# Altium integrated library Diodes - TVS.IntLib: 5379 symbols (part 116 of 122)
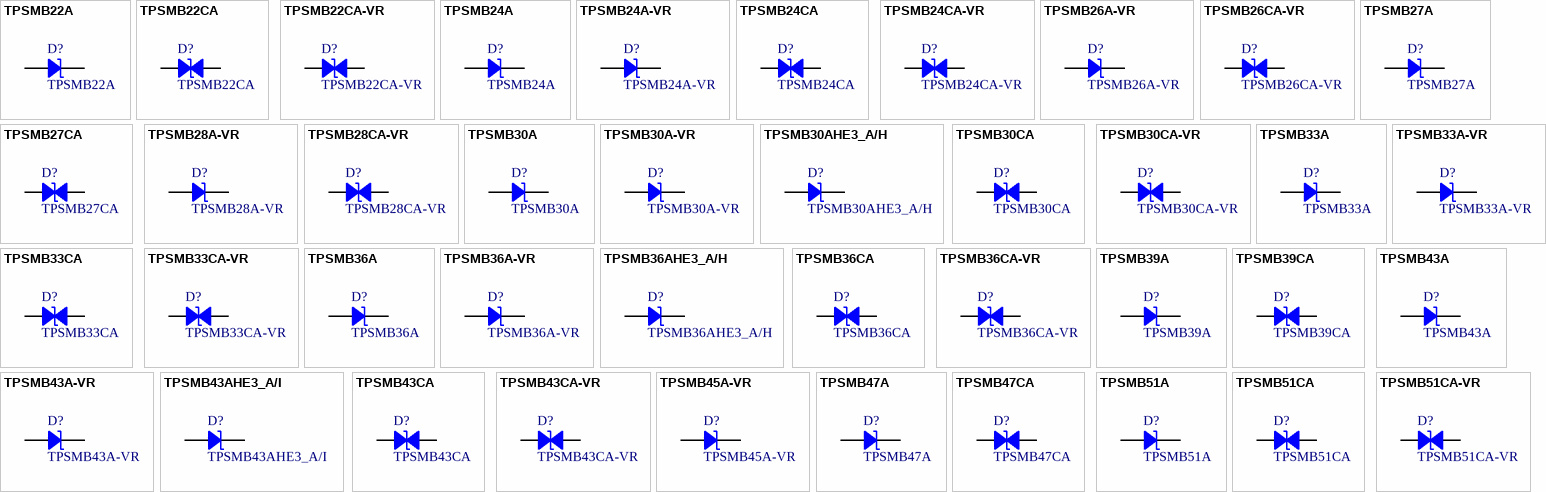
[diagram p249: symbols TPSMB22A to TPSMB51CA-VR]

## TPSMB43A
designator D?
TVS DIODE 36.8V 59.3V DO214AA; Manufacturer: Littelfuse Inc.; Current - Peak Pulse (10/1000µs): 10.3A; Power Line Protection: No; Power - Peak Pulse: 600W; Type: Zener; Unidirectional Channels: 1; Voltage - Breakdown (Min): 40.9V; Part Number: TPSMB43A; Applications: Automotive; ComponentLink1Description: Datasheet; ComponentLink1URL: https://www.littelfuse.com/~/media/electronics/datasheets/tvs_diodes/littelfuse_tvs_diode_tpsmb_datasheet.pdf.pdf; ComponentLink2Description: DigiKey Link; ComponentLink2URL: http://digikey.com/product-detail/en/littelfuse-inc/TPSMB43A/F6328CT-ND/4835324; LastUpdated: 9/2/2020 1:19:46 AM; Lifecycle Status: Active; Minimum Order: 1; Mounting Type: Surface Mount; Operating Temperature: -65°C ~ 175°C (TJ); Package / Case: DO-214AA, SMB; Packaging: TapeAndReel; PartId: 10806; Part Status: Active; Price: 0.18; Series: Automotive, AEC-Q101, TPSMB; Supplier 1: DigiKey; Supplier Part Number 1: F6328CT-ND; Supplier Device Package: DO-214AA (SMBJ); Voltage - Clamping (Max) @ Ipp: 59.3V; Voltage - Reverse Standoff (Typ): 36.8V
footprint DO214AA SMB
pins: 1, 2

## TPSMB43A-VR
designator D?
TVS SURF MT DO214AA AEQ101 TR; Manufacturer: Littelfuse Inc.; Current - Peak Pulse (10/1000µs): 8.7A; Power Line Protection: No; Power - Peak Pulse: 600W; Type: Zener; Unidirectional Channels: 1; Voltage - Breakdown (Min): 47.8V; Voltage - Clamping (Max) @ Ipp: 69.4V; Voltage - Reverse Standoff (Typ): 43V; Part Number: TPSMB43A-VR; Applications: Automotive; ComponentLink1Description: Datasheet; ComponentLink1URL: https://www.littelfuse.com/~/media/electronics/datasheets/tvs_diodes/littelfuse_tvs_diode_tpsmb_vr_datasheet.pdf.pdf; ComponentLink2Description: DigiKey Link; ComponentLink2URL: http://digikey.com/product-detail/en/littelfuse-inc/TPSMB43A-VR/TPSMB43A-VRCT-ND/9991793; LastUpdated: 9/2/2020 1:19:46 AM; Lifecycle Status: Active; Minimum Order: 1; Mounting Type: Surface Mount; Operating Temperature: -65°C ~ 175°C (TJ); Package / Case: DO-214AA, SMB; Packaging: TapeAndReel; PartId: 10809; Part Status: Active; Price: 0.18; Series: Automotive, AEC-Q101, TPSMB-VR; Supplier 1: DigiKey; Supplier Part Number 1: TPSMB43A-VRCT-ND; Supplier Device Package: DO-214AA (SMBJ)
footprint DO214AA SMB
pins: 1, 2

## TPSMB43AHE3_A/I
designator D?
TVS DIODE 36.8V 59.3V DO214AA; Manufacturer: Vishay Semiconductor Diodes Division; Current - Peak Pulse (10/1000µs): 10.1A; Power Line Protection: No; Power - Peak Pulse: 600W; Type: Zener; Unidirectional Channels: 1; Voltage - Breakdown (Min): 40.9V; Part Number: TPSMB43AHE3_A/I; Applications: Automotive; ComponentLink1Description: Datasheet; ComponentLink1URL: http://www.vishay.com/docs/88406/tpsmb.pdf; ComponentLink2Description: DigiKey Link; ComponentLink2URL: http://digikey.com/product-detail/en/vishay-semiconductor-diodes-division/TPSMB43AHE3_A-I/TPSMB43AHE3_A-IGICT-ND/9601302; LastUpdated: 9/2/2020 1:19:45 AM; Lifecycle Status: Active; Minimum Order: 1; Mounting Type: Surface Mount; Operating Temperature: -65°C ~ 185°C (TJ); Package / Case: DO-214AA, SMB; Packaging: TapeAndReel; PartId: 10770; Part Status: Active; Price: 0.19; Series: Automotive, AEC-Q101, PAR®; Supplier 1: DigiKey; Supplier Part Number 1: TPSMB43AHE3_A/IGICT-ND; Supplier Device Package: DO-214AA (SMB); Voltage - Clamping (Max) @ Ipp: 59.3V; Voltage - Reverse Standoff (Typ): 36.8V
footprint DO214AA SMB
pins: 1, 2

## TPSMB43CA
designator D?
TVS DIODE 36.8V 59.3V DO214AA; Manufacturer: Littelfuse Inc.; Bidirectional Channels: 1; Current - Peak Pulse (10/1000µs): 10.3A; Power Line Protection: No; Power - Peak Pulse: 600W; Type: Zener; Voltage - Breakdown (Min): 40.9V; Part Number: TPSMB43CA; Applications: Automotive; ComponentLink1Description: Datasheet; ComponentLink1URL: https://www.littelfuse.com/~/media/electronics/datasheets/tvs_diodes/littelfuse_tvs_diode_tpsmb_datasheet.pdf.pdf; ComponentLink2Description: DigiKey Link; ComponentLink2URL: http://digikey.com/product-detail/en/littelfuse-inc/TPSMB43CA/F6329CT-ND/4835325; LastUpdated: 9/2/2020 1:28:17 AM; Lifecycle Status: Active; Minimum Order: 1; Mounting Type: Surface Mount; Operating Temperature: -65°C ~ 175°C (TJ); Package / Case: DO-214AA, SMB; Packaging: TapeAndReel; PartId: 9099; Part Status: Active; Price: 0.18; Series: Automotive, AEC-Q101, TPSMB; Supplier 1: DigiKey; Supplier Part Number 1: F6329CT-ND; Supplier Device Package: DO-214AA (SMBJ); Voltage - Clamping (Max) @ Ipp: 59.3V; Voltage - Reverse Standoff (Typ): 36.8V
footprint DO214AA SMB
pins: 1, 2

## TPSMB43CA-VR
designator D?
TVS SURF MT DO214AA AEQ101 TR; Manufacturer: Littelfuse Inc.; Bidirectional Channels: 1; Current - Peak Pulse (10/1000µs): 8.7A; Power Line Protection: No; Power - Peak Pulse: 600W; Type: Zener; Voltage - Breakdown (Min): 47.8V; Voltage - Clamping (Max) @ Ipp: 69.4V; Voltage - Reverse Standoff (Typ): 43V; Part Number: TPSMB43CA-VR; Applications: Automotive; ComponentLink1Description: Datasheet; ComponentLink1URL: https://www.littelfuse.com/~/media/electronics/datasheets/tvs_diodes/littelfuse_tvs_diode_tpsmb_vr_datasheet.pdf.pdf; ComponentLink2Description: DigiKey Link; ComponentLink2URL: http://digikey.com/product-detail/en/littelfuse-inc/TPSMB43CA-VR/TPSMB43CA-VRCT-ND/9991794; LastUpdated: 9/2/2020 1:28:16 AM; Lifecycle Status: Active; Minimum Order: 1; Mounting Type: Surface Mount; Operating Temperature: -65°C ~ 175°C (TJ); Package / Case: DO-214AA, SMB; Packaging: TapeAndReel; PartId: 8968; Part Status: Active; Price: 0.18; Series: Automotive, AEC-Q101, TPSMB-VR; Supplier 1: DigiKey; Supplier Part Number 1: TPSMB43CA-VRCT-ND; Supplier Device Package: DO-214AA (SMBJ)
footprint DO214AA SMB
pins: 1, 2

## TPSMB45A-VR
designator D?
TVS SURF MT DO214AA AEQ101 TR; Manufacturer: Littelfuse Inc.; Current - Peak Pulse (10/1000µs): 8.3A; Power Line Protection: No; Power - Peak Pulse: 600W; Type: Zener; Unidirectional Channels: 1; Voltage - Breakdown (Min): 50V; Voltage - Clamping (Max) @ Ipp: 72.7V; Voltage - Reverse Standoff (Typ): 45V; Part Number: TPSMB45A-VR; Applications: Automotive; ComponentLink1Description: Datasheet; ComponentLink1URL: https://www.littelfuse.com/~/media/electronics/datasheets/tvs_diodes/littelfuse_tvs_diode_tpsmb_vr_datasheet.pdf.pdf; ComponentLink2Description: DigiKey Link; ComponentLink2URL: http://digikey.com/product-detail/en/littelfuse-inc/TPSMB45A-VR/TPSMB45A-VRCT-ND/9991795; LastUpdated: 9/2/2020 1:19:48 AM; Lifecycle Status: Active; Minimum Order: 1; Mounting Type: Surface Mount; Operating Temperature: -65°C ~ 175°C (TJ); Package / Case: DO-214AA, SMB; Packaging: TapeAndReel; PartId: 11022; Part Status: Active; Price: 0.18; Series: Automotive, AEC-Q101, TPSMB-VR; Supplier 1: DigiKey; Supplier Part Number 1: TPSMB45A-VRCT-ND; Supplier Device Package: DO-214AA (SMBJ)
footprint DO214AA SMB
pins: 1, 2

## TPSMB47A
designator D?
TVS DIODE 40.2V 64.8V DO214AA; Manufacturer: Littelfuse Inc.; Current - Peak Pulse (10/1000µs): 9.4A; Power Line Protection: No; Power - Peak Pulse: 600W; Type: Zener; Unidirectional Channels: 1; Voltage - Breakdown (Min): 44.7V; Part Number: TPSMB47A; Applications: Automotive; ComponentLink1Description: Datasheet; ComponentLink1URL: https://www.littelfuse.com/~/media/electronics/datasheets/tvs_diodes/littelfuse_tvs_diode_tpsmb_datasheet.pdf.pdf; ComponentLink2Description: DigiKey Link; ComponentLink2URL: http://digikey.com/product-detail/en/littelfuse-inc/TPSMB47A/F6330CT-ND/4835326; LastUpdated: 9/2/2020 1:19:46 AM; Lifecycle Status: Active; Minimum Order: 1; Mounting Type: Surface Mount; Operating Temperature: -65°C ~ 175°C (TJ); Package / Case: DO-214AA, SMB; Packaging: TapeAndReel; PartId: 10814; Part Status: Active; Price: 0.18; Series: Automotive, AEC-Q101, TPSMB; Supplier 1: DigiKey; Supplier Part Number 1: F6330CT-ND; Supplier Device Package: DO-214AA (SMBJ); Voltage - Clamping (Max) @ Ipp: 64.8V; Voltage - Reverse Standoff (Typ): 40.2V
footprint DO214AA SMB
pins: 1, 2

## TPSMB47CA
designator D?
TVS DIODE 40.2V 64.8V DO214AA; Manufacturer: Littelfuse Inc.; Bidirectional Channels: 1; Current - Peak Pulse (10/1000µs): 9.4A; Power Line Protection: No; Power - Peak Pulse: 600W; Type: Zener; Voltage - Breakdown (Min): 44.7V; Part Number: TPSMB47CA; Applications: Automotive; ComponentLink1Description: Datasheet; ComponentLink1URL: https://www.littelfuse.com/~/media/electronics/datasheets/tvs_diodes/littelfuse_tvs_diode_tpsmb_datasheet.pdf.pdf; ComponentLink2Description: DigiKey Link; ComponentLink2URL: http://digikey.com/product-detail/en/littelfuse-inc/TPSMB47CA/F6331CT-ND/4835327; LastUpdated: 9/2/2020 1:28:18 AM; Lifecycle Status: Active; Minimum Order: 1; Mounting Type: Surface Mount; Operating Temperature: -65°C ~ 175°C (TJ); Package / Case: DO-214AA, SMB; Packaging: TapeAndReel; PartId: 9135; Part Status: Active; Price: 0.18; Series: Automotive, AEC-Q101, TPSMB; Supplier 1: DigiKey; Supplier Part Number 1: F6331CT-ND; Supplier Device Package: DO-214AA (SMBJ); Voltage - Clamping (Max) @ Ipp: 64.8V; Voltage - Reverse Standoff (Typ): 40.2V
footprint DO214AA SMB
pins: 1, 2

## TPSMB51A
designator D?
TVS DIODE 43.6V 70.1V DO214AA; Manufacturer: Littelfuse Inc.; Current - Peak Pulse (10/1000µs): 8.7A; Power Line Protection: No; Power - Peak Pulse: 600W; Type: Zener; Unidirectional Channels: 1; Voltage - Breakdown (Min): 48.5V; Part Number: TPSMB51A; Applications: Automotive; ComponentLink1Description: Datasheet; ComponentLink1URL: https://www.littelfuse.com/~/media/electronics/datasheets/tvs_diodes/littelfuse_tvs_diode_tpsmb_datasheet.pdf.pdf; ComponentLink2Description: DigiKey Link; ComponentLink2URL: http://digikey.com/product-detail/en/littelfuse-inc/TPSMB51A/F6332CT-ND/4835328; LastUpdated: 9/2/2020 1:19:46 AM; Lifecycle Status: Active; Minimum Order: 1; Mounting Type: Surface Mount; Operating Temperature: -65°C ~ 175°C (TJ); Package / Case: DO-214AA, SMB; Packaging: TapeAndReel; PartId: 10799; Part Status: Active; Price: 0.18; Series: Automotive, AEC-Q101, TPSMB; Supplier 1: DigiKey; Supplier Part Number 1: F6332CT-ND; Supplier Device Package: DO-214AA (SMBJ); Voltage - Clamping (Max) @ Ipp: 70.1V; Voltage - Reverse Standoff (Typ): 43.6V
footprint DO214AA SMB
pins: 1, 2

## TPSMB51CA
designator D?
TVS DIODE 43.6V 70.1V DO214AA; Manufacturer: Littelfuse Inc.; Bidirectional Channels: 1; Current - Peak Pulse (10/1000µs): 8.7A; Power Line Protection: No; Power - Peak Pulse: 600W; Type: Zener; Voltage - Breakdown (Min): 48.5V; Part Number: TPSMB51CA; Applications: Automotive; ComponentLink1Description: Datasheet; ComponentLink1URL: https://www.littelfuse.com/~/media/electronics/datasheets/tvs_diodes/littelfuse_tvs_diode_tpsmb_datasheet.pdf.pdf; ComponentLink2Description: DigiKey Link; ComponentLink2URL: http://digikey.com/product-detail/en/littelfuse-inc/TPSMB51CA/F6333CT-ND/4835329; LastUpdated: 9/2/2020 1:28:18 AM; Lifecycle Status: Active; Minimum Order: 1; Mounting Type: Surface Mount; Operating Temperature: -65°C ~ 175°C (TJ); Package / Case: DO-214AA, SMB; Packaging: TapeAndReel; PartId: 9136; Part Status: Active; Price: 0.18; Series: Automotive, AEC-Q101, TPSMB; Supplier 1: DigiKey; Supplier Part Number 1: F6333CT-ND; Supplier Device Package: DO-214AA (SMBJ); Voltage - Clamping (Max) @ Ipp: 70.1V; Voltage - Reverse Standoff (Typ): 43.6V
footprint DO214AA SMB
pins: 1, 2

## TPSMB51CA-VR
designator D?
TVS SURF MT DO214AA AEQ101 TR; Manufacturer: Littelfuse Inc.; Bidirectional Channels: 1; Current - Peak Pulse (10/1000µs): 7.3A; Power Line Protection: No; Power - Peak Pulse: 600W; Type: Zener; Voltage - Breakdown (Min): 56.7V; Voltage - Clamping (Max) @ Ipp: 82.4V; Voltage - Reverse Standoff (Typ): 51V; Part Number: TPSMB51CA-VR; Applications: Automotive; ComponentLink1Description: Datasheet; ComponentLink1URL: https://www.littelfuse.com/~/media/electronics/datasheets/tvs_diodes/littelfuse_tvs_diode_tpsmb_vr_datasheet.pdf.pdf; ComponentLink2Description: DigiKey Link; ComponentLink2URL: http://digikey.com/product-detail/en/littelfuse-inc/TPSMB51CA-VR/TPSMB51CA-VRCT-ND/9991796; LastUpdated: 9/2/2020 1:28:20 AM; Lifecycle Status: Active; Minimum Order: 1; Mounting Type: Surface Mount; Operating Temperature: -65°C ~ 175°C (TJ); Package / Case: DO-214AA, SMB; Packaging: TapeAndReel; PartId: 9353; Part Status: Active; Price: 0.18; Series: Automotive, AEC-Q101, TPSMB-VR; Supplier 1: DigiKey; Supplier Part Number 1: TPSMB51CA-VRCT-ND; Supplier Device Package: DO-214AA (SMBJ)
footprint DO214AA SMB
pins: 1, 2

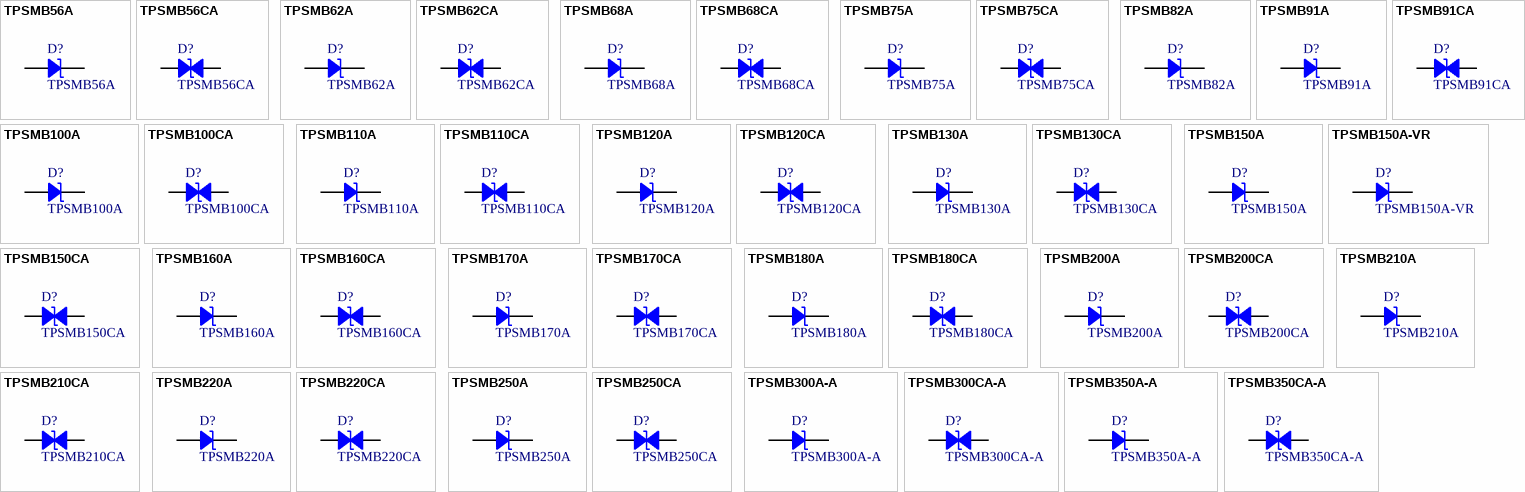
[diagram p128: symbols TPSMB56A to TPSMB350CA-A]

## TPSMB56A
designator D?
TVS DIODE 47.8V 77V DO214AA; Manufacturer: Littelfuse Inc.; Current - Peak Pulse (10/1000µs): 7.9A; Power Line Protection: No; Power - Peak Pulse: 600W; Type: Zener; Unidirectional Channels: 1; Voltage - Breakdown (Min): 53.2V; Part Number: TPSMB56A; Applications: Automotive; ComponentLink1Description: Datasheet; ComponentLink1URL: https://www.littelfuse.com/~/media/electronics/datasheets/tvs_diodes/littelfuse_tvs_diode_tpsmb_datasheet.pdf.pdf; ComponentLink2Description: DigiKey Link; ComponentLink2URL: http://digikey.com/product-detail/en/littelfuse-inc/TPSMB56A/F6334CT-ND/4835330; LastUpdated: 9/2/2020 1:19:46 AM; Lifecycle Status: Active; Minimum Order: 1; Mounting Type: Surface Mount; Operating Temperature: -65°C ~ 175°C (TJ); Package / Case: DO-214AA, SMB; Packaging: TapeAndReel; PartId: 10805; Part Status: Active; Price: 0.18; Series: Automotive, AEC-Q101, TPSMB; Supplier 1: DigiKey; Supplier Part Number 1: F6334CT-ND; Supplier Device Package: DO-214AA (SMBJ); Voltage - Clamping (Max) @ Ipp: 77V; Voltage - Reverse Standoff (Typ): 47.8V
footprint DO214AA SMB
pins: 1, 2

## TPSMB56CA
designator D?
TVS DIODE 47.8V 77V DO214AA; Manufacturer: Littelfuse Inc.; Bidirectional Channels: 1; Current - Peak Pulse (10/1000µs): 7.9A; Power Line Protection: No; Power - Peak Pulse: 600W; Type: Zener; Voltage - Breakdown (Min): 53.2V; Part Number: TPSMB56CA; Applications: Automotive; ComponentLink1Description: Datasheet; ComponentLink1URL: https://www.littelfuse.com/~/media/electronics/datasheets/tvs_diodes/littelfuse_tvs_diode_tpsmb_datasheet.pdf.pdf; ComponentLink2Description: DigiKey Link; ComponentLink2URL: http://digikey.com/product-detail/en/littelfuse-inc/TPSMB56CA/F6335CT-ND/4835331; LastUpdated: 9/2/2020 1:28:18 AM; Lifecycle Status: Active; Minimum Order: 1; Mounting Type: Surface Mount; Operating Temperature: -65°C ~ 175°C (TJ); Package / Case: DO-214AA, SMB; Packaging: TapeAndReel; PartId: 9129; Part Status: Active; Price: 0.18; Series: Automotive, AEC-Q101, TPSMB; Supplier 1: DigiKey; Supplier Part Number 1: F6335CT-ND; Supplier Device Package: DO-214AA (SMBJ); Voltage - Clamping (Max) @ Ipp: 77V; Voltage - Reverse Standoff (Typ): 47.8V
footprint DO214AA SMB
pins: 1, 2

## TPSMB62A
designator D?
TVS DIODE 53V 85V DO214AA; Manufacturer: Littelfuse Inc.; Current - Peak Pulse (10/1000µs): 7.2A; Power Line Protection: No; Power - Peak Pulse: 600W; Type: Zener; Unidirectional Channels: 1; Voltage - Breakdown (Min): 58.9V; Part Number: TPSMB62A; Applications: Automotive; ComponentLink1Description: Datasheet; ComponentLink1URL: https://www.littelfuse.com/~/media/electronics/datasheets/tvs_diodes/littelfuse_tvs_diode_tpsmb_datasheet.pdf.pdf; ComponentLink2Description: DigiKey Link; ComponentLink2URL: http://digikey.com/product-detail/en/littelfuse-inc/TPSMB62A/F6336CT-ND/4835332; LastUpdated: 9/2/2020 1:19:46 AM; Lifecycle Status: Active; Minimum Order: 1; Mounting Type: Surface Mount; Operating Temperature: -65°C ~ 175°C (TJ); Package / Case: DO-214AA, SMB; Packaging: TapeAndReel; PartId: 10801; Part Status: Active; Price: 0.18; Series: Automotive, AEC-Q101, TPSMB; Supplier 1: DigiKey; Supplier Part Number 1: F6336CT-ND; Supplier Device Package: DO-214AA (SMBJ); Voltage - Clamping (Max) @ Ipp: 85V; Voltage - Reverse Standoff (Typ): 53V
footprint DO214AA SMB
pins: 1, 2

## TPSMB62CA
designator D?
TVS DIODE 53V 85V DO214AA; Manufacturer: Littelfuse Inc.; Bidirectional Channels: 1; Current - Peak Pulse (10/1000µs): 7.2A; Power Line Protection: No; Power - Peak Pulse: 600W; Type: Zener; Voltage - Breakdown (Min): 58.9V; Part Number: TPSMB62CA; Applications: Automotive; ComponentLink1Description: Datasheet; ComponentLink1URL: https://www.littelfuse.com/~/media/electronics/datasheets/tvs_diodes/littelfuse_tvs_diode_tpsmb_datasheet.pdf.pdf; ComponentLink2Description: DigiKey Link; ComponentLink2URL: http://digikey.com/product-detail/en/littelfuse-inc/TPSMB62CA/F6337CT-ND/4835333; LastUpdated: 9/2/2020 1:28:18 AM; Lifecycle Status: Active; Minimum Order: 1; Mounting Type: Surface Mount; Operating Temperature: -65°C ~ 175°C (TJ); Package / Case: DO-214AA, SMB; Packaging: TapeAndReel; PartId: 9130; Part Status: Active; Price: 0.18; Series: Automotive, AEC-Q101, TPSMB; Supplier 1: DigiKey; Supplier Part Number 1: F6337CT-ND; Supplier Device Package: DO-214AA (SMBJ); Voltage - Clamping (Max) @ Ipp: 85V; Voltage - Reverse Standoff (Typ): 53V
footprint DO214AA SMB
pins: 1, 2

## TPSMB68A
designator D?
TVS DIODE 58.1V 92V DO214AA; Manufacturer: Littelfuse Inc.; Current - Peak Pulse (10/1000µs): 6.6A; Power Line Protection: No; Power - Peak Pulse: 600W; Type: Zener; Unidirectional Channels: 1; Voltage - Breakdown (Min): 64.6V; Part Number: TPSMB68A; Applications: Automotive; ComponentLink1Description: Datasheet; ComponentLink1URL: https://www.littelfuse.com/~/media/electronics/datasheets/tvs_diodes/littelfuse_tvs_diode_tpsmb_datasheet.pdf.pdf; ComponentLink2Description: DigiKey Link; ComponentLink2URL: http://digikey.com/product-detail/en/littelfuse-inc/TPSMB68A/F6338CT-ND/4835334; LastUpdated: 9/2/2020 1:19:45 AM; Lifecycle Status: Active; Minimum Order: 1; Mounting Type: Surface Mount; Operating Temperature: -65°C ~ 175°C (TJ); Package / Case: DO-214AA, SMB; Packaging: TapeAndReel; PartId: 10760; Part Status: Active; Price: 0.18; Series: Automotive, AEC-Q101, TPSMB; Supplier 1: DigiKey; Supplier Part Number 1: F6338CT-ND; Supplier Device Package: DO-214AA (SMBJ); Voltage - Clamping (Max) @ Ipp: 92V; Voltage - Reverse Standoff (Typ): 58.1V
footprint DO214AA SMB
pins: 1, 2

## TPSMB68CA
designator D?
TVS DIODE 58.1V 92V DO214AA; Manufacturer: Littelfuse Inc.; Bidirectional Channels: 1; Current - Peak Pulse (10/1000µs): 6.6A; Power Line Protection: No; Power - Peak Pulse: 600W; Type: Zener; Voltage - Breakdown (Min): 64.6V; Part Number: TPSMB68CA; Applications: Automotive; ComponentLink1Description: Datasheet; ComponentLink1URL: https://www.littelfuse.com/~/media/electronics/datasheets/tvs_diodes/littelfuse_tvs_diode_tpsmb_datasheet.pdf.pdf; ComponentLink2Description: DigiKey Link; ComponentLink2URL: http://digikey.com/product-detail/en/littelfuse-inc/TPSMB68CA/F6339CT-ND/4835335; LastUpdated: 9/2/2020 1:28:18 AM; Lifecycle Status: Active; Minimum Order: 1; Mounting Type: Surface Mount; Operating Temperature: -65°C ~ 175°C (TJ); Package / Case: DO-214AA, SMB; Packaging: TapeAndReel; PartId: 9134; Part Status: Active; Price: 0.18; Series: Automotive, AEC-Q101, TPSMB; Supplier 1: DigiKey; Supplier Part Number 1: F6339CT-ND; Supplier Device Package: DO-214AA (SMBJ); Voltage - Clamping (Max) @ Ipp: 92V; Voltage - Reverse Standoff (Typ): 58.1V
footprint DO214AA SMB
pins: 1, 2

## TPSMB75A
designator D?
TVS DIODE 64.1V 103V DO214AA; Manufacturer: Littelfuse Inc.; Current - Peak Pulse (10/1000µs): 5.9A; Power Line Protection: No; Power - Peak Pulse: 600W; Type: Zener; Unidirectional Channels: 1; Voltage - Breakdown (Min): 71.3V; Part Number: TPSMB75A; Applications: Automotive; ComponentLink1Description: Datasheet; ComponentLink1URL: https://www.littelfuse.com/~/media/electronics/datasheets/tvs_diodes/littelfuse_tvs_diode_tpsmb_datasheet.pdf.pdf; ComponentLink2Description: DigiKey Link; ComponentLink2URL: http://digikey.com/product-detail/en/littelfuse-inc/TPSMB75A/F6340CT-ND/4835336; LastUpdated: 9/2/2020 1:19:46 AM; Lifecycle Status: Active; Minimum Order: 1; Mounting Type: Surface Mount; Operating Temperature: -65°C ~ 175°C (TJ); Package / Case: DO-214AA, SMB; Packaging: TapeAndReel; PartId: 10798; Part Status: Active; Price: 0.18; Series: Automotive, AEC-Q101, TPSMB; Supplier 1: DigiKey; Supplier Part Number 1: F6340CT-ND; Supplier Device Package: DO-214AA (SMBJ); Voltage - Clamping (Max) @ Ipp: 103V; Voltage - Reverse Standoff (Typ): 64.1V
footprint DO214AA SMB
pins: 1, 2

## TPSMB75CA
designator D?
TVS DIODE 64.1V 103V DO214AA; Manufacturer: Littelfuse Inc.; Bidirectional Channels: 1; Current - Peak Pulse (10/1000µs): 5.9A; Power Line Protection: No; Power - Peak Pulse: 600W; Type: Zener; Voltage - Breakdown (Min): 71.3V; Part Number: TPSMB75CA; Applications: Automotive; ComponentLink1Description: Datasheet; ComponentLink1URL: https://www.littelfuse.com/~/media/electronics/datasheets/tvs_diodes/littelfuse_tvs_diode_tpsmb_datasheet.pdf.pdf; ComponentLink2Description: DigiKey Link; ComponentLink2URL: http://digikey.com/product-detail/en/littelfuse-inc/TPSMB75CA/F6341CT-ND/4835337; LastUpdated: 9/2/2020 1:28:18 AM; Lifecycle Status: Active; Minimum Order: 1; Mounting Type: Surface Mount; Operating Temperature: -65°C ~ 175°C (TJ); Package / Case: DO-214AA, SMB; Packaging: TapeAndReel; PartId: 9138; Part Status: Active; Price: 0.18; Series: Automotive, AEC-Q101, TPSMB; Supplier 1: DigiKey; Supplier Part Number 1: F6341CT-ND; Supplier Device Package: DO-214AA (SMBJ); Voltage - Clamping (Max) @ Ipp: 103V; Voltage - Reverse Standoff (Typ): 64.1V
footprint DO214AA SMB
pins: 1, 2

## TPSMB82A
designator D?
TVS DIODE 70.1V 113V DO214AA; Manufacturer: Littelfuse Inc.; Current - Peak Pulse (10/1000µs): 5.4A; Power Line Protection: No; Power - Peak Pulse: 600W; Type: Zener; Unidirectional Channels: 1; Voltage - Breakdown (Min): 77.9V; Part Number: TPSMB82A; Applications: Automotive; ComponentLink1Description: Datasheet; ComponentLink1URL: https://www.littelfuse.com/~/media/electronics/datasheets/tvs_diodes/littelfuse_tvs_diode_tpsmb_datasheet.pdf.pdf; ComponentLink2Description: DigiKey Link; ComponentLink2URL: http://digikey.com/product-detail/en/littelfuse-inc/TPSMB82A/F6342CT-ND/4835338; LastUpdated: 9/2/2020 1:19:46 AM; Lifecycle Status: Active; Minimum Order: 1; Mounting Type: Surface Mount; Operating Temperature: -65°C ~ 175°C (TJ); Package / Case: DO-214AA, SMB; Packaging: TapeAndReel; PartId: 10800; Part Status: Active; Price: 0.18; Series: Automotive, AEC-Q101, TPSMB; Supplier 1: DigiKey; Supplier Part Number 1: F6342CT-ND; Supplier Device Package: DO-214AA (SMBJ); Voltage - Clamping (Max) @ Ipp: 113V; Voltage - Reverse Standoff (Typ): 70.1V
footprint DO214AA SMB
pins: 1, 2

## TPSMB91A
designator D?
TVS DIODE 77.8V 125V DO214AA; Manufacturer: Littelfuse Inc.; Current - Peak Pulse (10/1000µs): 4.9A; Power Line Protection: No; Power - Peak Pulse: 600W; Type: Zener; Unidirectional Channels: 1; Voltage - Breakdown (Min): 86.5V; Part Number: TPSMB91A; Applications: Automotive; ComponentLink1Description: Datasheet; ComponentLink1URL: https://www.littelfuse.com/~/media/electronics/datasheets/tvs_diodes/littelfuse_tvs_diode_tpsmb_datasheet.pdf.pdf; ComponentLink2Description: DigiKey Link; ComponentLink2URL: http://digikey.com/product-detail/en/littelfuse-inc/TPSMB91A/F6344CT-ND/4835340; LastUpdated: 9/2/2020 1:19:46 AM; Lifecycle Status: Active; Minimum Order: 1; Mounting Type: Surface Mount; Operating Temperature: -65°C ~ 175°C (TJ); Package / Case: DO-214AA, SMB; Packaging: TapeAndReel; PartId: 10804; Part Status: Active; Price: 0.18; Series: Automotive, AEC-Q101, TPSMB; Supplier 1: DigiKey; Supplier Part Number 1: F6344CT-ND; Supplier Device Package: DO-214AA (SMBJ); Voltage - Clamping (Max) @ Ipp: 125V; Voltage - Reverse Standoff (Typ): 77.8V
footprint DO214AA SMB
pins: 1, 2

## TPSMB91CA
designator D?
TVS DIODE 77.8V 125V DO214AA; Manufacturer: Littelfuse Inc.; Bidirectional Channels: 1; Current - Peak Pulse (10/1000µs): 4.9A; Power Line Protection: No; Power - Peak Pulse: 600W; Type: Zener; Voltage - Breakdown (Min): 86.5V; Part Number: TPSMB91CA; Applications: Automotive; ComponentLink1Description: Datasheet; ComponentLink1URL: https://www.littelfuse.com/~/media/electronics/datasheets/tvs_diodes/littelfuse_tvs_diode_tpsmb_datasheet.pdf.pdf; ComponentLink2Description: DigiKey Link; ComponentLink2URL: http://digikey.com/product-detail/en/littelfuse-inc/TPSMB91CA/F6345CT-ND/4835341; LastUpdated: 9/2/2020 1:28:18 AM; Lifecycle Status: Active; Minimum Order: 1; Mounting Type: Surface Mount; Operating Temperature: -65°C ~ 175°C (TJ); Package / Case: DO-214AA, SMB; Packaging: TapeAndReel; PartId: 9127; Part Status: Active; Price: 0.18; Series: Automotive, AEC-Q101, TPSMB; Supplier 1: DigiKey; Supplier Part Number 1: F6345CT-ND; Supplier Device Package: DO-214AA (SMBJ); Voltage - Clamping (Max) @ Ipp: 125V; Voltage - Reverse Standoff (Typ): 77.8V
footprint DO214AA SMB
pins: 1, 2

## TPSMB100A
designator D?
TVS DIODE 85.5V 137V DO214AA; Manufacturer: Littelfuse Inc.; Current - Peak Pulse (10/1000µs): 4.5A; Power Line Protection: No; Power - Peak Pulse: 600W; Type: Zener; Unidirectional Channels: 1; Voltage - Breakdown (Min): 95V; Part Number: TPSMB100A; Applications: Automotive; ComponentLink1Description: Datasheet; ComponentLink1URL: https://www.littelfuse.com/~/media/electronics/datasheets/tvs_diodes/littelfuse_tvs_diode_tpsmb_datasheet.pdf.pdf; ComponentLink2Description: DigiKey Link; ComponentLink2URL: http://digikey.com/product-detail/en/littelfuse-inc/TPSMB100A/F10342CT-ND/7789859; LastUpdated: 9/2/2020 1:19:50 AM; Lifecycle Status: Active; Minimum Order: 1; Mounting Type: Surface Mount; Operating Temperature: -65°C ~ 150°C (TJ); Package / Case: DO-214AA, SMB; Packaging: TapeAndReel; PartId: 11303; Part Status: Active; Price: 0.29; Series: Automotive, AEC-Q101, TPSMB; Supplier 1: DigiKey; Supplier Part Number 1: F10342CT-ND; Supplier Device Package: DO-214AA (SMBJ); Voltage - Clamping (Max) @ Ipp: 137V; Voltage - Reverse Standoff (Typ): 85.5V
footprint DO214AA SMB
pins: 1, 2

## TPSMB100CA
designator D?
TVS DIODE 85.5V 137V DO214AA; Manufacturer: Littelfuse Inc.; Bidirectional Channels: 1; Current - Peak Pulse (10/1000µs): 4.5A; Power Line Protection: No; Power - Peak Pulse: 600W; Type: Zener; Voltage - Breakdown (Min): 95V; Part Number: TPSMB100CA; Applications: Automotive; ComponentLink1Description: Datasheet; ComponentLink1URL: https://www.littelfuse.com/~/media/electronics/datasheets/tvs_diodes/littelfuse_tvs_diode_tpsmb_datasheet.pdf.pdf; ComponentLink2Description: DigiKey Link; ComponentLink2URL: http://digikey.com/product-detail/en/littelfuse-inc/TPSMB100CA/F10343CT-ND/7789860; LastUpdated: 9/2/2020 1:28:22 AM; Lifecycle Status: Active; Minimum Order: 1; Mounting Type: Surface Mount; Operating Temperature: -65°C ~ 150°C (TJ); Package / Case: DO-214AA, SMB; Packaging: CutTape; PartId: 9633; Part Status: Active; Price: 0.75; Series: Automotive, AEC-Q101, TPSMB; Supplier 1: DigiKey; Supplier Part Number 1: F10343CT-ND; Supplier Device Package: DO-214AA (SMBJ); Voltage - Clamping (Max) @ Ipp: 137V; Voltage - Reverse Standoff (Typ): 85.5V
footprint DO214AA SMB
pins: 1, 2

## TPSMB110A
designator D?
TVS DIODE 94V 152V DO214AA; Manufacturer: Littelfuse Inc.; Current - Peak Pulse (10/1000µs): 4A; Power Line Protection: No; Power - Peak Pulse: 600W; Type: Zener; Unidirectional Channels: 1; Voltage - Breakdown (Min): 105V; Part Number: TPSMB110A; Applications: Automotive; ComponentLink1Description: Datasheet; ComponentLink1URL: https://www.littelfuse.com/~/media/electronics/datasheets/tvs_diodes/littelfuse_tvs_diode_tpsmb_datasheet.pdf.pdf; ComponentLink2Description: DigiKey Link; ComponentLink2URL: http://digikey.com/product-detail/en/littelfuse-inc/TPSMB110A/1294-TPSMB110A-CHP/10261301; LastUpdated: 9/2/2020 1:19:49 AM; Lifecycle Status: Active; Minimum Order: 3000; Mounting Type: Surface Mount; Operating Temperature: -65°C ~ 150°C (TJ); Package / Case: DO-214AA, SMB; Packaging: TapeAndReel; PartId: 11153; Part Status: Active; Price: 0.23; Series: Automotive, AEC-Q101, TPSMB; Supplier 1: DigiKey; Supplier Part Number 1: 1294-TPSMB110A-CHP; Supplier Device Package: DO-214AA (SMBJ); Voltage - Clamping (Max) @ Ipp: 152V; Voltage - Reverse Standoff (Typ): 94V
footprint DO214AA SMB
pins: 1, 2

## TPSMB110CA
designator D?
TVS DIODE 94V 152V DO214AA; Manufacturer: Littelfuse Inc.; Bidirectional Channels: 1; Current - Peak Pulse (10/1000µs): 4A; Power Line Protection: No; Power - Peak Pulse: 600W; Type: Zener; Voltage - Breakdown (Min): 105V; Part Number: TPSMB110CA; Applications: Automotive; ComponentLink1Description: Datasheet; ComponentLink1URL: https://www.littelfuse.com/~/media/electronics/datasheets/tvs_diodes/littelfuse_tvs_diode_tpsmb_datasheet.pdf.pdf; ComponentLink2Description: DigiKey Link; ComponentLink2URL: http://digikey.com/product-detail/en/littelfuse-inc/TPSMB110CA/F10344CT-ND/7789861; LastUpdated: 9/2/2020 1:28:22 AM; Lifecycle Status: Active; Minimum Order: 1; Mounting Type: Surface Mount; Operating Temperature: -65°C ~ 150°C (TJ); Package / Case: DO-214AA, SMB; Packaging: CutTape; PartId: 9637; Part Status: Active; Price: 0.75; Series: Automotive, AEC-Q101, TPSMB; Supplier 1: DigiKey; Supplier Part Number 1: F10344CT-ND; Supplier Device Package: DO-214AA (SMBJ); Voltage - Clamping (Max) @ Ipp: 152V; Voltage - Reverse Standoff (Typ): 94V
footprint DO214AA SMB
pins: 1, 2

## TPSMB120A
designator D?
TVS DIODE 102V 165V DO214AA; Manufacturer: Littelfuse Inc.; Current - Peak Pulse (10/1000µs): 3.7A; Power Line Protection: No; Power - Peak Pulse: 600W; Type: Zener; Unidirectional Channels: 1; Voltage - Breakdown (Min): 114V; Part Number: TPSMB120A; Applications: Automotive; ComponentLink1Description: Datasheet; ComponentLink1URL: https://www.littelfuse.com/~/media/electronics/datasheets/tvs_diodes/littelfuse_tvs_diode_tpsmb_datasheet.pdf.pdf; ComponentLink2Description: DigiKey Link; ComponentLink2URL: http://digikey.com/product-detail/en/littelfuse-inc/TPSMB120A/F10345CT-ND/7789862; LastUpdated: 9/2/2020 1:19:51 AM; Lifecycle Status: Active; Minimum Order: 1; Mounting Type: Surface Mount; Operating Temperature: -65°C ~ 150°C (TJ); Package / Case: DO-214AA, SMB; Packaging: TapeAndReel; PartId: 11357; Part Status: Active; Price: 0.29; Series: Automotive, AEC-Q101, TPSMB; Supplier 1: DigiKey; Supplier Part Number 1: F10345CT-ND; Supplier Device Package: DO-214AA (SMBJ); Voltage - Clamping (Max) @ Ipp: 165V; Voltage - Reverse Standoff (Typ): 102V
footprint DO214AA SMB
pins: 1, 2

## TPSMB120CA
designator D?
TVS DIODE 102V 165V DO214AA; Manufacturer: Littelfuse Inc.; Bidirectional Channels: 1; Current - Peak Pulse (10/1000µs): 3.7A; Power Line Protection: No; Power - Peak Pulse: 600W; Type: Zener; Voltage - Breakdown (Min): 114V; Part Number: TPSMB120CA; Applications: Automotive; ComponentLink1Description: Datasheet; ComponentLink1URL: https://www.littelfuse.com/~/media/electronics/datasheets/tvs_diodes/littelfuse_tvs_diode_tpsmb_datasheet.pdf.pdf; ComponentLink2Description: DigiKey Link; ComponentLink2URL: http://digikey.com/product-detail/en/littelfuse-inc/TPSMB120CA/F10346CT-ND/7789863; LastUpdated: 9/2/2020 1:28:22 AM; Lifecycle Status: Active; Minimum Order: 1; Mounting Type: Surface Mount; Operating Temperature: -65°C ~ 150°C (TJ); Package / Case: DO-214AA, SMB; Packaging: CutTape; PartId: 9630; Part Status: Active; Price: 0.75; Series: Automotive, AEC-Q101, TPSMB; Supplier 1: DigiKey; Supplier Part Number 1: F10346CT-ND; Supplier Device Package: DO-214AA (SMBJ); Voltage - Clamping (Max) @ Ipp: 165V; Voltage - Reverse Standoff (Typ): 102V
footprint DO214AA SMB
pins: 1, 2

## TPSMB130A
designator D?
TVS DIODE 111V 179V DO214AA; Manufacturer: Littelfuse Inc.; Current - Peak Pulse (10/1000µs): 3.4A; Power Line Protection: No; Power - Peak Pulse: 600W; Type: Zener; Unidirectional Channels: 1; Voltage - Breakdown (Min): 124V; Part Number: TPSMB130A; Applications: Automotive; ComponentLink1Description: Datasheet; ComponentLink1URL: https://www.littelfuse.com/~/media/electronics/datasheets/tvs_diodes/littelfuse_tvs_diode_tpsmb_datasheet.pdf.pdf; ComponentLink2Description: DigiKey Link; ComponentLink2URL: http://digikey.com/product-detail/en/littelfuse-inc/TPSMB130A/F10347CT-ND/7789864; LastUpdated: 9/2/2020 1:19:51 AM; Lifecycle Status: Active; Minimum Order: 1; Mounting Type: Surface Mount; Operating Temperature: -65°C ~ 150°C (TJ); Package / Case: DO-214AA, SMB; Packaging: TapeAndReel; PartId: 11353; Part Status: Active; Price: 0.29; Series: Automotive, AEC-Q101, TPSMB; Supplier 1: DigiKey; Supplier Part Number 1: F10347CT-ND; Supplier Device Package: DO-214AA (SMBJ); Voltage - Clamping (Max) @ Ipp: 179V; Voltage - Reverse Standoff (Typ): 111V
footprint DO214AA SMB
pins: 1, 2

## TPSMB130CA
designator D?
TVS DIODE 111V 179V DO214AA; Manufacturer: Littelfuse Inc.; Bidirectional Channels: 1; Current - Peak Pulse (10/1000µs): 3.4A; Power Line Protection: No; Power - Peak Pulse: 600W; Type: Zener; Voltage - Breakdown (Min): 124V; Part Number: TPSMB130CA; Applications: Automotive; ComponentLink1Description: Datasheet; ComponentLink1URL: https://www.littelfuse.com/~/media/electronics/datasheets/tvs_diodes/littelfuse_tvs_diode_tpsmb_datasheet.pdf.pdf; ComponentLink2Description: DigiKey Link; ComponentLink2URL: http://digikey.com/product-detail/en/littelfuse-inc/TPSMB130CA/F10348CT-ND/7789865; LastUpdated: 9/2/2020 1:28:22 AM; Lifecycle Status: Active; Minimum Order: 1; Mounting Type: Surface Mount; Operating Temperature: -65°C ~ 150°C (TJ); Package / Case: DO-214AA, SMB; Packaging: TapeAndReel; PartId: 9640; Part Status: Active; Price: 0.29; Series: Automotive, AEC-Q101, TPSMB; Supplier 1: DigiKey; Supplier Part Number 1: F10348CT-ND; Supplier Device Package: DO-214AA (SMBJ); Voltage - Clamping (Max) @ Ipp: 179V; Voltage - Reverse Standoff (Typ): 111V
footprint DO214AA SMB
pins: 1, 2

## TPSMB150A
designator D?
TVS DIODE 128V 207V DO214AA; Manufacturer: Littelfuse Inc.; Current - Peak Pulse (10/1000µs): 2.9A; Power Line Protection: No; Power - Peak Pulse: 600W; Type: Zener; Unidirectional Channels: 1; Voltage - Breakdown (Min): 143V; Part Number: TPSMB150A; Applications: Automotive; ComponentLink1Description: Datasheet; ComponentLink1URL: https://www.littelfuse.com/~/media/electronics/datasheets/tvs_diodes/littelfuse_tvs_diode_tpsmb_datasheet.pdf.pdf; ComponentLink2Description: DigiKey Link; ComponentLink2URL: http://digikey.com/product-detail/en/littelfuse-inc/TPSMB150A/F10349CT-ND/7789866; LastUpdated: 9/2/2020 1:19:50 AM; Lifecycle Status: Active; Minimum Order: 1; Mounting Type: Surface Mount; Operating Temperature: -65°C ~ 150°C (TJ); Package / Case: DO-214AA, SMB; Packaging: TapeAndReel; PartId: 11304; Part Status: Active; Price: 0.29; Series: Automotive, AEC-Q101, TPSMB; Supplier 1: DigiKey; Supplier Part Number 1: F10349CT-ND; Supplier Device Package: DO-214AA (SMBJ); Voltage - Clamping (Max) @ Ipp: 207V; Voltage - Reverse Standoff (Typ): 128V
footprint DO214AA SMB
pins: 1, 2

## TPSMB150A-VR
designator D?
TVS SURF MT DO214AA AEQ101 TR; Manufacturer: Littelfuse Inc.; Current - Peak Pulse (10/1000µs): 2.5A; Power Line Protection: No; Power - Peak Pulse: 600W; Type: Zener; Unidirectional Channels: 1; Voltage - Breakdown (Min): 167V; Voltage - Clamping (Max) @ Ipp: 243V; Voltage - Reverse Standoff (Typ): 150V; Part Number: TPSMB150A-VR; Applications: Automotive; ComponentLink1Description: Datasheet; ComponentLink1URL: https://www.littelfuse.com/~/media/electronics/datasheets/tvs_diodes/littelfuse_tvs_diode_tpsmb_vr_datasheet.pdf.pdf; ComponentLink2Description: DigiKey Link; ComponentLink2URL: http://digikey.com/product-detail/en/littelfuse-inc/TPSMB150A-VR/TPSMB150A-VRCT-ND/9991777; LastUpdated: 9/2/2020 1:19:51 AM; Lifecycle Status: Active; Minimum Order: 1; Mounting Type: Surface Mount; Operating Temperature: -65°C ~ 175°C (TJ); Package / Case: DO-214AA, SMB; Packaging: TapeAndReel; PartId: 11359; Part Status: Active; Price: 0.29; Series: Automotive, AEC-Q101, TPSMB-VR; Supplier 1: DigiKey; Supplier Part Number 1: TPSMB150A-VRCT-ND; Supplier Device Package: DO-214AA (SMBJ)
footprint DO214AA SMB
pins: 1, 2

## TPSMB150CA
designator D?
TVS DIODE 128V 207V DO214AA; Manufacturer: Littelfuse Inc.; Bidirectional Channels: 1; Current - Peak Pulse (10/1000µs): 2.9A; Power Line Protection: No; Power - Peak Pulse: 600W; Type: Zener; Voltage - Breakdown (Min): 143V; Part Number: TPSMB150CA; Applications: Automotive; ComponentLink1Description: Datasheet; ComponentLink1URL: https://www.littelfuse.com/~/media/electronics/datasheets/tvs_diodes/littelfuse_tvs_diode_tpsmb_datasheet.pdf.pdf; ComponentLink2Description: DigiKey Link; ComponentLink2URL: http://digikey.com/product-detail/en/littelfuse-inc/TPSMB150CA/F10350CT-ND/7789867; LastUpdated: 9/2/2020 1:28:21 AM; Lifecycle Status: Active; Minimum Order: 1; Mounting Type: Surface Mount; Operating Temperature: -65°C ~ 150°C (TJ); Package / Case: DO-214AA, SMB; Packaging: TapeAndReel; PartId: 9586; Part Status: Active; Price: 0.29; Series: Automotive, AEC-Q101, TPSMB; Supplier 1: DigiKey; Supplier Part Number 1: F10350CT-ND; Supplier Device Package: DO-214AA (SMBJ); Voltage - Clamping (Max) @ Ipp: 207V; Voltage - Reverse Standoff (Typ): 128V
footprint DO214AA SMB
pins: 1, 2

## TPSMB160A
designator D?
TVS DIODE 136V 219V DO214AA; Manufacturer: Littelfuse Inc.; Current - Peak Pulse (10/1000µs): 2.8A; Power Line Protection: No; Power - Peak Pulse: 600W; Type: Zener; Unidirectional Channels: 1; Voltage - Breakdown (Min): 152V; Part Number: TPSMB160A; Applications: Automotive; ComponentLink1Description: Datasheet; ComponentLink1URL: https://www.littelfuse.com/~/media/electronics/datasheets/tvs_diodes/littelfuse_tvs_diode_tpsmb_datasheet.pdf.pdf; ComponentLink2Description: DigiKey Link; ComponentLink2URL: http://digikey.com/product-detail/en/littelfuse-inc/TPSMB160A/F10351CT-ND/7789868; LastUpdated: 9/2/2020 1:19:51 AM; Lifecycle Status: Active; Minimum Order: 1; Mounting Type: Surface Mount; Operating Temperature: -65°C ~ 150°C (TJ); Package / Case: DO-214AA, SMB; Packaging: TapeAndReel; PartId: 11358; Part Status: Active; Price: 0.29; Series: Automotive, AEC-Q101, TPSMB; Supplier 1: DigiKey; Supplier Part Number 1: F10351CT-ND; Supplier Device Package: DO-214AA (SMBJ); Voltage - Clamping (Max) @ Ipp: 219V; Voltage - Reverse Standoff (Typ): 136V
footprint DO214AA SMB
pins: 1, 2

## TPSMB160CA
designator D?
TVS DIODE 136V 219V DO214AA; Manufacturer: Littelfuse Inc.; Bidirectional Channels: 1; Current - Peak Pulse (10/1000µs): 2.8A; Power Line Protection: No; Power - Peak Pulse: 600W; Type: Zener; Voltage - Breakdown (Min): 152V; Part Number: TPSMB160CA; Applications: Automotive; ComponentLink1Description: Datasheet; ComponentLink1URL: https://www.littelfuse.com/~/media/electronics/datasheets/tvs_diodes/littelfuse_tvs_diode_tpsmb_datasheet.pdf.pdf; ComponentLink2Description: DigiKey Link; ComponentLink2URL: http://digikey.com/product-detail/en/littelfuse-inc/TPSMB160CA/F10352CT-ND/7789869; LastUpdated: 9/2/2020 1:28:22 AM; Lifecycle Status: Active; Minimum Order: 1; Mounting Type: Surface Mount; Operating Temperature: -65°C ~ 150°C (TJ); Package / Case: DO-214AA, SMB; Packaging: TapeAndReel; PartId: 9635; Part Status: Active; Price: 0.29; Series: Automotive, AEC-Q101, TPSMB; Supplier 1: DigiKey; Supplier Part Number 1: F10352CT-ND; Supplier Device Package: DO-214AA (SMBJ); Voltage - Clamping (Max) @ Ipp: 219V; Voltage - Reverse Standoff (Typ): 136V
footprint DO214AA SMB
pins: 1, 2

## TPSMB170A
designator D?
TVS DIODE 145V 234V DO214AA; Manufacturer: Littelfuse Inc.; Current - Peak Pulse (10/1000µs): 2.6A; Power Line Protection: No; Power - Peak Pulse: 600W; Type: Zener; Unidirectional Channels: 1; Voltage - Breakdown (Min): 162V; Part Number: TPSMB170A; Applications: Automotive; ComponentLink1Description: Datasheet; ComponentLink1URL: https://www.littelfuse.com/~/media/electronics/datasheets/tvs_diodes/littelfuse_tvs_diode_tpsmb_datasheet.pdf.pdf; ComponentLink2Description: DigiKey Link; ComponentLink2URL: http://digikey.com/product-detail/en/littelfuse-inc/TPSMB170A/F10353CT-ND/7789870; LastUpdated: 9/2/2020 1:19:51 AM; Lifecycle Status: Active; Minimum Order: 1; Mounting Type: Surface Mount; Operating Temperature: -65°C ~ 150°C (TJ); Package / Case: DO-214AA, SMB; Packaging: TapeAndReel; PartId: 11352; Part Status: Active; Price: 0.29; Series: Automotive, AEC-Q101, TPSMB; Supplier 1: DigiKey; Supplier Part Number 1: F10353CT-ND; Supplier Device Package: DO-214AA (SMBJ); Voltage - Clamping (Max) @ Ipp: 234V; Voltage - Reverse Standoff (Typ): 145V
footprint DO214AA SMB
pins: 1, 2

## TPSMB170CA
designator D?
TVS DIODE 145V 234V DO214AA; Manufacturer: Littelfuse Inc.; Bidirectional Channels: 1; Current - Peak Pulse (10/1000µs): 2.6A; Power Line Protection: No; Power - Peak Pulse: 600W; Type: Zener; Voltage - Breakdown (Min): 162V; Part Number: TPSMB170CA; Applications: Automotive; ComponentLink1Description: Datasheet; ComponentLink1URL: https://www.littelfuse.com/~/media/electronics/datasheets/tvs_diodes/littelfuse_tvs_diode_tpsmb_datasheet.pdf.pdf; ComponentLink2Description: DigiKey Link; ComponentLink2URL: http://digikey.com/product-detail/en/littelfuse-inc/TPSMB170CA/F10354CT-ND/7789871; LastUpdated: 9/2/2020 1:28:22 AM; Lifecycle Status: Active; Minimum Order: 1; Mounting Type: Surface Mount; Operating Temperature: -65°C ~ 150°C (TJ); Package / Case: DO-214AA, SMB; Packaging: TapeAndReel; PartId: 9639; Part Status: Active; Price: 0.29; Series: Automotive, AEC-Q101, TPSMB; Supplier 1: DigiKey; Supplier Part Number 1: F10354CT-ND; Supplier Device Package: DO-214AA (SMBJ); Voltage - Clamping (Max) @ Ipp: 234V; Voltage - Reverse Standoff (Typ): 145V
footprint DO214AA SMB
pins: 1, 2

## TPSMB180A
designator D?
TVS DIODE 154V 246V DO214AA; Manufacturer: Littelfuse Inc.; Current - Peak Pulse (10/1000µs): 2.5A; Power Line Protection: No; Power - Peak Pulse: 600W; Type: Zener; Unidirectional Channels: 1; Voltage - Breakdown (Min): 171V; Part Number: TPSMB180A; Applications: Automotive; ComponentLink1Description: Datasheet; ComponentLink1URL: https://www.littelfuse.com/~/media/electronics/datasheets/tvs_diodes/littelfuse_tvs_diode_tpsmb_datasheet.pdf.pdf; ComponentLink2Description: DigiKey Link; ComponentLink2URL: http://digikey.com/product-detail/en/littelfuse-inc/TPSMB180A/F10355CT-ND/7789872; LastUpdated: 9/2/2020 1:19:51 AM; Lifecycle Status: Active; Minimum Order: 1; Mounting Type: Surface Mount; Operating Temperature: -65°C ~ 150°C (TJ); Package / Case: DO-214AA, SMB; Packaging: TapeAndReel; PartId: 11355; Part Status: Active; Price: 0.29; Series: Automotive, AEC-Q101, TPSMB; Supplier 1: DigiKey; Supplier Part Number 1: F10355CT-ND; Supplier Device Package: DO-214AA (SMBJ); Voltage - Clamping (Max) @ Ipp: 246V; Voltage - Reverse Standoff (Typ): 154V
footprint DO214AA SMB
pins: 1, 2

## TPSMB180CA
designator D?
TVS DIODE 154V 246V DO214AA; Manufacturer: Littelfuse Inc.; Bidirectional Channels: 1; Current - Peak Pulse (10/1000µs): 2.5A; Power Line Protection: No; Power - Peak Pulse: 600W; Type: Zener; Voltage - Breakdown (Min): 171V; Part Number: TPSMB180CA; Applications: Automotive; ComponentLink1Description: Datasheet; ComponentLink1URL: https://www.littelfuse.com/~/media/electronics/datasheets/tvs_diodes/littelfuse_tvs_diode_tpsmb_datasheet.pdf.pdf; ComponentLink2Description: DigiKey Link; ComponentLink2URL: http://digikey.com/product-detail/en/littelfuse-inc/TPSMB180CA/F10356CT-ND/7789873; LastUpdated: 9/2/2020 1:28:22 AM; Lifecycle Status: Active; Minimum Order: 1; Mounting Type: Surface Mount; Operating Temperature: -65°C ~ 150°C (TJ); Package / Case: DO-214AA, SMB; Packaging: TapeAndReel; PartId: 9631; Part Status: Active; Price: 0.29; Series: Automotive, AEC-Q101, TPSMB; Supplier 1: DigiKey; Supplier Part Number 1: F10356CT-ND; Supplier Device Package: DO-214AA (SMBJ); Voltage - Clamping (Max) @ Ipp: 246V; Voltage - Reverse Standoff (Typ): 154V
footprint DO214AA SMB
pins: 1, 2

## TPSMB200A
designator D?
TVS DIODE 171V 274V DO214AA; Manufacturer: Littelfuse Inc.; Current - Peak Pulse (10/1000µs): 2.2A; Power Line Protection: No; Power - Peak Pulse: 600W; Type: Zener; Unidirectional Channels: 1; Voltage - Breakdown (Min): 190V; Part Number: TPSMB200A; Applications: Automotive; ComponentLink1Description: Datasheet; ComponentLink1URL: https://www.littelfuse.com/~/media/electronics/datasheets/tvs_diodes/littelfuse_tvs_diode_tpsmb_datasheet.pdf.pdf; ComponentLink2Description: DigiKey Link; ComponentLink2URL: http://digikey.com/product-detail/en/littelfuse-inc/TPSMB200A/F10337CT-ND/7789854; LastUpdated: 9/2/2020 1:19:51 AM; Lifecycle Status: Active; Minimum Order: 1; Mounting Type: Surface Mount; Operating Temperature: -65°C ~ 150°C (TJ); Package / Case: DO-214AA, SMB; Packaging: CutTape; PartId: 11351; Part Status: Active; Price: 0.75; Series: Automotive, AEC-Q101, TPSMB; Supplier 1: DigiKey; Supplier Part Number 1: F10337CT-ND; Supplier Device Package: DO-214AA (SMBJ); Voltage - Clamping (Max) @ Ipp: 274V; Voltage - Reverse Standoff (Typ): 171V
footprint DO214AA SMB
pins: 1, 2

## TPSMB200CA
designator D?
TVS DIODE 171V 274V DO214AA; Manufacturer: Littelfuse Inc.; Bidirectional Channels: 1; Current - Peak Pulse (10/1000µs): 2.2A; Power Line Protection: No; Power - Peak Pulse: 600W; Type: Zener; Voltage - Breakdown (Min): 190V; Part Number: TPSMB200CA; Applications: Automotive; ComponentLink1Description: Datasheet; ComponentLink1URL: https://www.littelfuse.com/~/media/electronics/datasheets/tvs_diodes/littelfuse_tvs_diode_tpsmb_datasheet.pdf.pdf; ComponentLink2Description: DigiKey Link; ComponentLink2URL: http://digikey.com/product-detail/en/littelfuse-inc/TPSMB200CA/F10357CT-ND/7789874; LastUpdated: 9/2/2020 1:28:22 AM; Lifecycle Status: Active; Minimum Order: 1; Mounting Type: Surface Mount; Operating Temperature: -65°C ~ 150°C (TJ); Package / Case: DO-214AA, SMB; Packaging: TapeAndReel; PartId: 9636; Part Status: Active; Price: 0.29; Series: Automotive, AEC-Q101, TPSMB; Supplier 1: DigiKey; Supplier Part Number 1: F10357CT-ND; Supplier Device Package: DO-214AA (SMBJ); Voltage - Clamping (Max) @ Ipp: 274V; Voltage - Reverse Standoff (Typ): 171V
footprint DO214AA SMB
pins: 1, 2

## TPSMB210A
designator D?
TVS DIODE 179.6V 288V DO214AA; Manufacturer: Littelfuse Inc.; Current - Peak Pulse (10/1000µs): 2.1A; Power Line Protection: No; Power - Peak Pulse: 600W; Type: Zener; Unidirectional Channels: 1; Voltage - Breakdown (Min): 199.5V; Part Number: TPSMB210A; Applications: Automotive; ComponentLink1Description: Datasheet; ComponentLink1URL: https://www.littelfuse.com/~/media/electronics/datasheets/tvs_diodes/littelfuse_tvs_diode_tpsmb_datasheet.pdf.pdf; ComponentLink2Description: DigiKey Link; ComponentLink2URL: http://digikey.com/product-detail/en/littelfuse-inc/TPSMB210A/F10376CT-ND/7792608; LastUpdated: 9/2/2020 1:19:51 AM; Lifecycle Status: Active; Minimum Order: 1; Mounting Type: Surface Mount; Operating Temperature: -65°C ~ 150°C (TJ); Package / Case: DO-214AA, SMB; Packaging: CutTape; PartId: 11361; Part Status: Active; Price: 0.75; Series: Automotive, AEC-Q101, TPSMB; Supplier 1: DigiKey; Supplier Part Number 1: F10376CT-ND; Supplier Device Package: DO-214AA (SMBJ); Voltage - Clamping (Max) @ Ipp: 288V; Voltage - Reverse Standoff (Typ): 179.6V
footprint DO214AA SMB
pins: 1, 2

## TPSMB210CA
designator D?
TVS DIODE 179.6V 288V DO214AA; Manufacturer: Littelfuse Inc.; Bidirectional Channels: 1; Current - Peak Pulse (10/1000µs): 2.1A; Power Line Protection: No; Power - Peak Pulse: 600W; Type: Zener; Voltage - Breakdown (Min): 199.5V; Part Number: TPSMB210CA; Applications: Automotive; ComponentLink1Description: Datasheet; ComponentLink1URL: https://www.littelfuse.com/~/media/electronics/datasheets/tvs_diodes/littelfuse_tvs_diode_tpsmb_datasheet.pdf.pdf; ComponentLink2Description: DigiKey Link; ComponentLink2URL: http://digikey.com/product-detail/en/littelfuse-inc/TPSMB210CA/F10377CT-ND/7792609; LastUpdated: 9/2/2020 1:28:22 AM; Lifecycle Status: Active; Minimum Order: 1; Mounting Type: Surface Mount; Operating Temperature: -65°C ~ 150°C (TJ); Package / Case: DO-214AA, SMB; Packaging: TapeAndReel; PartId: 9638; Part Status: Active; Price: 0.29; Series: Automotive, AEC-Q101, TPSMB; Supplier 1: DigiKey; Supplier Part Number 1: F10377CT-ND; Supplier Device Package: DO-214AA (SMBJ); Voltage - Clamping (Max) @ Ipp: 288V; Voltage - Reverse Standoff (Typ): 179.6V
footprint DO214AA SMB
pins: 1, 2

## TPSMB220A
designator D?
TVS DIODE 185V 328V DO214AA; Manufacturer: Littelfuse Inc.; Current - Peak Pulse (10/1000µs): 1.9A; Power Line Protection: No; Power - Peak Pulse: 600W; Type: Zener; Unidirectional Channels: 1; Voltage - Breakdown (Min): 209V; Part Number: TPSMB220A; Applications: Automotive; ComponentLink1Description: Datasheet; ComponentLink1URL: https://www.littelfuse.com/~/media/electronics/datasheets/tvs_diodes/littelfuse_tvs_diode_tpsmb_datasheet.pdf.pdf; ComponentLink2Description: DigiKey Link; ComponentLink2URL: http://digikey.com/product-detail/en/littelfuse-inc/TPSMB220A/F10358CT-ND/7789875; LastUpdated: 9/2/2020 1:19:51 AM; Lifecycle Status: Active; Minimum Order: 1; Mounting Type: Surface Mount; Operating Temperature: -65°C ~ 150°C (TJ); Package / Case: DO-214AA, SMB; Packaging: CutTape; PartId: 11356; Part Status: Active; Price: 0.75; Series: Automotive, AEC-Q101, TPSMB; Supplier 1: DigiKey; Supplier Part Number 1: F10358CT-ND; Supplier Device Package: DO-214AA (SMBJ); Voltage - Clamping (Max) @ Ipp: 328V; Voltage - Reverse Standoff (Typ): 185V
footprint DO214AA SMB
pins: 1, 2